# Altium footprint library DRV8432PCB.PcbLib: 1 footprints
Each footprint in its own frame and in the unit in brackets; x right, y up, seen from the top. Pads: shape width x height; smd on the part's side, far side on the other; paste and mask are expansions set on the pad; w line width, h text height; cw(c..) or ccw(c..) is an arc to the next point about the centre after c.
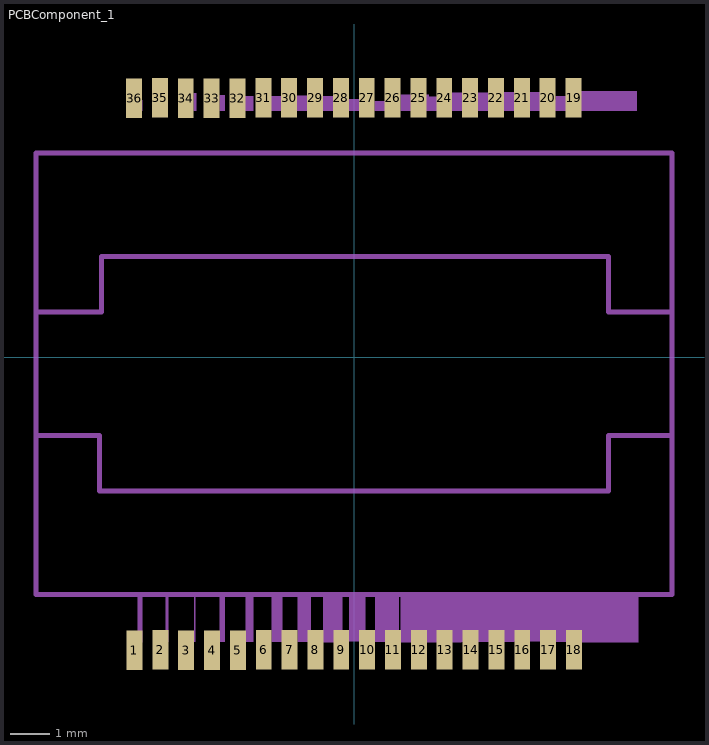
[diagram p0: the footprint, top view; thin cyan lines are the x and y axes]

## PCBComponent_1 [mm]
pads (36):
  rect 0.4x1 smd: 1(-5.521,-7.369) 2(-4.871,-7.359) 3(-4.221,-7.369) 4(-3.571,-7.369) 5(-2.921,-7.369) 6(-2.271,-7.359) 7(-1.621,-7.359) 8(-0.971,-7.359) 9(-0.321,-7.359) 10(0.329,-7.359) 11(0.979,-7.359) 12(1.629,-7.359) 13(2.279,-7.359) 14(2.929,-7.359) 15(3.579,-7.359) 16(4.229,-7.359) 17(4.879,-7.359) 18(5.529,-7.359) 19(5.519,6.521) 20(4.869,6.521) 21(4.219,6.521) 22(3.569,6.521) 23(2.919,6.521) 24(2.269,6.521) 25(1.619,6.521) 26(0.969,6.521) 27(0.319,6.521) 28(-0.331,6.521) 29(-0.981,6.521) 30(-1.631,6.521) 31(-2.281,6.521) 32(-2.931,6.511) 33(-3.581,6.511) 34(-4.231,6.511) 35(-4.881,6.521) 36(-5.531,6.511)
Mechanical 4:
  drawing of 108 lines, arcs and shapes, not listed
3D body "DKD0036A.stp": height 3.5, standoff 0, extent -7.95,-7.627 7.95,6.612